# Altium schematic symbol library 1-2199298-1.SchLib: 1 symbol
Pins are listed as number, name and electrical type; pins without a type are passive.

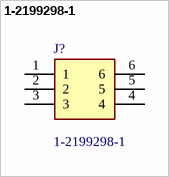
[diagram p0: symbol 1-2199298-1]

## 1-2199298-1
designator J?
TE CONNECTIVITY - 1-2199298-1 - IC SOCKET, DIP, 6POS, TH; Geometry.Height: 5.1mm; Mouser Part Number: 571-1-2199298-1; Mouser Price/Stock: https://www.mouser.co.uk/ProductDetail/TE-Connectivity/1-2199298-1?qs=fK8dlpkaUMsQ%252BTzExsKLsw%3D%3D; Manufacturer_Name: TE Connectivity; Manufacturer_Part_Number: 1-2199298-1; Datasheet Link: https://www.te.com/commerce/DocumentDelivery/DDEController?Action=showdoc&DocId=Customer+Drawing%7F2199298%7FA%7Fpdf%7FEnglish%7FENG_CD_2199298_A_baseFilename.pdf%7F1-2199298-1
footprint DIPS762W70P254L762H510Q6N
pins: 1, 2, 3, 4, 5, 6